# Altium footprint library Jump_254.PcbLib: 184 footprints (part 12 of 12)
Each footprint in its own frame and in the unit in brackets; x right, y up, seen from the top. Pads: shape width x height; smd on the part's side, far side on the other; paste and mask are expansions set on the pad; w line width, h text height; cw(c..) or ccw(c..) is an arc to the next point about the centre after c.
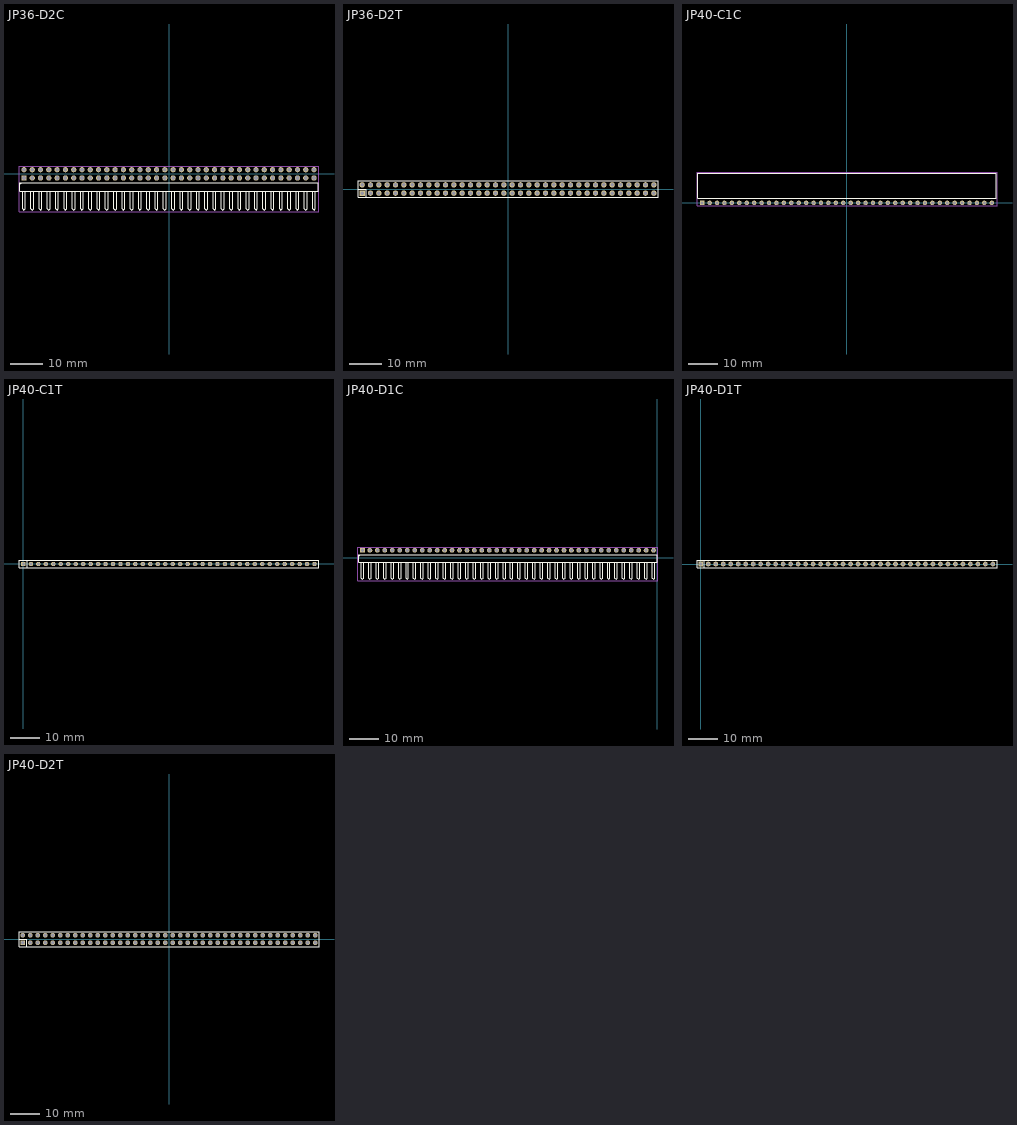
[diagram p11: the footprints below, top view; thin cyan lines are the x and y axes]

## JP36-D2C [mm] "72 pins, dual row, right angled, gold plating"
height 5.08
pads (72):
  rect 1.6x1.6 hole 1.1: 1(-44.45,-1.27)
  round 1.6 hole 1.1: 2(-41.91,-1.27) 3(-39.37,-1.27) 4(-36.83,-1.27) 5(-34.29,-1.27) 6(-31.75,-1.27) 7(-29.21,-1.27) 8(-26.67,-1.27) 9(-24.13,-1.27) 10(-21.59,-1.27) 11(-19.05,-1.27) 12(-16.51,-1.27) 13(-13.97,-1.27) 14(-11.43,-1.27) 15(-8.89,-1.27) 16(-6.35,-1.27) 17(-3.81,-1.27) 18(-1.27,-1.27) 19(1.27,-1.27) 20(3.81,-1.27) 21(6.35,-1.27) 22(8.89,-1.27) 23(11.43,-1.27) 24(13.97,-1.27) 25(16.51,-1.27) 26(19.05,-1.27) 27(21.59,-1.27) 28(24.13,-1.27) 29(26.67,-1.27) 30(29.21,-1.27) 31(31.75,-1.27) 32(34.29,-1.27) 33(36.83,-1.27) 34(39.37,-1.27) 35(41.91,-1.27) 36(44.45,-1.27) 37(44.45,1.27) 38(41.91,1.27) 39(39.37,1.27) 40(36.83,1.27) 41(34.29,1.27) 42(31.75,1.27) 43(29.21,1.27) 44(26.67,1.27) 45(24.13,1.27) 46(21.59,1.27) 47(19.05,1.27) 48(16.51,1.27) 49(13.97,1.27) 50(11.43,1.27) 51(8.89,1.27) 52(6.35,1.27) 53(3.81,1.27) 54(1.27,1.27) 55(-1.27,1.27) 56(-3.81,1.27) 57(-6.35,1.27) 58(-8.89,1.27) 59(-11.43,1.27) 60(-13.97,1.27) 61(-16.51,1.27) 62(-19.05,1.27) 63(-21.59,1.27) 64(-24.13,1.27) 65(-26.67,1.27) 66(-29.21,1.27) 67(-31.75,1.27) 68(-34.29,1.27) 69(-36.83,1.27) 70(-39.37,1.27) 71(-41.91,1.27) 72(-44.45,1.27)
Top Overlay:
  lines w0.2: -45.678,-3.236 -45.254,-2.812 ; -44.873,-5.335 -44.873,-10.729 -44.45,-11.152 -44.027,-10.729 -44.027,-5.31 ; -42.333,-5.335 -42.333,-10.729 -41.91,-11.152 -41.487,-10.729 -41.487,-5.335 ; -39.793,-5.335 -39.793,-10.729 -39.37,-11.152 -38.947,-10.729 -38.947,-5.31 ; -37.253,-5.335 -37.253,-10.729 -36.83,-11.152 -36.407,-10.729 -36.407,-5.335 ; -34.713,-5.335 -34.713,-10.729 -34.29,-11.152 -33.867,-10.729 -33.867,-5.31 ; -32.173,-5.335 -32.173,-10.729 -31.75,-11.152 -31.327,-10.729 -31.327,-5.335 ; -29.633,-5.335 -29.633,-10.729 -29.21,-11.152 -28.787,-10.729 -28.787,-5.31 ; -27.093,-5.335 -27.093,-10.729 -26.67,-11.152 -26.247,-10.729 -26.247,-5.335 ; -24.553,-5.335 -24.553,-10.729 -24.13,-11.152 -23.707,-10.729 -23.707,-5.31 ; -22.013,-5.335 -22.013,-10.729 -21.59,-11.152 -21.167,-10.729 -21.167,-5.335 ; -19.473,-5.335 -19.473,-10.729 -19.05,-11.152 -18.627,-10.729 -18.627,-5.31 ; -16.933,-5.335 -16.933,-10.729 -16.51,-11.152 -16.087,-10.729 -16.087,-5.335 ; -14.393,-5.335 -14.393,-10.729 -13.97,-11.152 -13.547,-10.729 -13.547,-5.31 ; -11.853,-5.335 -11.853,-10.729 -11.43,-11.152 -11.007,-10.729 -11.007,-5.335 ; -9.313,-5.335 -9.313,-10.729 -8.89,-11.152 -8.467,-10.729 -8.467,-5.31 ; -6.773,-5.335 -6.773,-10.729 -6.35,-11.152 -5.927,-10.729 -5.927,-5.335 ; -4.233,-5.335 -4.233,-10.729 -3.81,-11.152 -3.387,-10.729 -3.387,-5.31 ; -1.693,-5.335 -1.693,-10.729 -1.27,-11.152 -0.847,-10.729 -0.847,-5.335 ; 0.847,-5.335 0.847,-10.729 1.27,-11.152 1.693,-10.729 1.693,-5.31 ; 3.387,-5.335 3.387,-10.729 3.81,-11.152 4.233,-10.729 4.233,-5.335 ; 5.927,-5.335 5.927,-10.729 6.35,-11.152 6.773,-10.729 6.773,-5.31 ; 8.467,-5.335 8.467,-10.729 8.89,-11.152 9.313,-10.729 9.313,-5.335 ; 11.007,-5.335 11.007,-10.729 11.43,-11.152 11.853,-10.729 11.853,-5.31 ; 13.547,-5.335 13.547,-10.729 13.97,-11.152 14.393,-10.729 14.393,-5.335 ; 16.087,-5.335 16.087,-10.729 16.51,-11.152 16.933,-10.729 16.933,-5.31 ; 18.627,-5.335 18.627,-10.729 19.05,-11.152 19.473,-10.729 19.473,-5.335 ; 21.167,-5.335 21.167,-10.729 21.59,-11.152 22.013,-10.729 22.013,-5.31 ; 23.707,-5.335 23.707,-10.729 24.13,-11.152 24.553,-10.729 24.553,-5.335 ; 26.247,-5.335 26.247,-10.729 26.67,-11.152 27.093,-10.729 27.093,-5.31 ; 28.787,-5.335 28.787,-10.729 29.21,-11.152 29.633,-10.729 29.633,-5.335 ; 31.327,-5.335 31.327,-10.729 31.75,-11.152 32.173,-10.729 32.173,-5.31 ; 33.867,-5.335 33.867,-10.729 34.29,-11.152 34.713,-10.729 34.713,-5.335 ; 36.407,-5.335 36.407,-10.729 36.83,-11.152 37.253,-10.729 37.253,-5.31 ; 38.947,-5.335 38.947,-10.729 39.37,-11.152 39.793,-10.729 39.793,-5.335 ; 41.487,-5.335 41.487,-10.729 41.91,-11.152 42.333,-10.729 42.333,-5.31 ; 44.027,-5.335 44.027,-10.729 44.45,-11.152 44.873,-10.729 44.873,-5.335 ; -45.72,-5.31 45.72,-5.31 45.72,-2.77 -45.72,-2.77 -45.72,-5.31
Mechanical 15:
  lines w0.1: -45.97,-11.56 -45.97,2.27 45.97,2.27 45.97,-11.56 -45.97,-11.56
3D body "61307221021.stp": height 5.09, standoff -2.99, extent -45.72,-11.334 45.72,1.566

## JP36-D2T [mm] "72 pins, dual pin, straight, gold plating"
height 8.54
pads (72):
  rect 1.6x1.6 hole 1.1: 1(-44.45,-1.27)
  round 1.6 hole 1.1: 2(-41.91,-1.27) 3(-39.37,-1.27) 4(-36.83,-1.27) 5(-34.29,-1.27) 6(-31.75,-1.27) 7(-29.21,-1.27) 8(-26.67,-1.27) 9(-24.13,-1.27) 10(-21.59,-1.27) 11(-19.05,-1.27) 12(-16.51,-1.27) 13(-13.97,-1.27) 14(-11.43,-1.27) 15(-8.89,-1.27) 16(-6.35,-1.27) 17(-3.81,-1.27) 18(-1.27,-1.27) 19(1.27,-1.27) 20(3.81,-1.27) 21(6.35,-1.27) 22(8.89,-1.27) 23(11.43,-1.27) 24(13.97,-1.27) 25(16.51,-1.27) 26(19.05,-1.27) 27(21.59,-1.27) 28(24.13,-1.27) 29(26.67,-1.27) 30(29.21,-1.27) 31(31.75,-1.27) 32(34.29,-1.27) 33(36.83,-1.27) 34(39.37,-1.27) 35(41.91,-1.27) 36(44.45,-1.27) 37(44.45,1.27) 38(41.91,1.27) 39(39.37,1.27) 40(36.83,1.27) 41(34.29,1.27) 42(31.75,1.27) 43(29.21,1.27) 44(26.67,1.27) 45(24.13,1.27) 46(21.59,1.27) 47(19.05,1.27) 48(16.51,1.27) 49(13.97,1.27) 50(11.43,1.27) 51(8.89,1.27) 52(6.35,1.27) 53(3.81,1.27) 54(1.27,1.27) 55(-1.27,1.27) 56(-3.81,1.27) 57(-6.35,1.27) 58(-8.89,1.27) 59(-11.43,1.27) 60(-13.97,1.27) 61(-16.51,1.27) 62(-19.05,1.27) 63(-21.59,1.27) 64(-24.13,1.27) 65(-26.67,1.27) 66(-29.21,1.27) 67(-31.75,1.27) 68(-34.29,1.27) 69(-36.83,1.27) 70(-39.37,1.27) 71(-41.91,1.27) 72(-44.45,1.27)
Top Overlay:
  lines w0.2: -45.72,0 -43.18,0 -43.18,-2.54 ; -45.72,-2.54 -45.72,2.54 45.72,2.54 45.72,-2.54 40.64,-2.54 -45.72,-2.54
3D body "61307221121.stp": height 8.55, standoff -2.99, extent -45.72,-2.54 45.72,2.54

## JP40-C1C [mm] "40p 1 row Right angle"
height 2.5
pads (40):
  rect 1.52x1.52 hole 1.02: 1(-49.53,0)
  round 1.52 hole 1.02: 2(-46.99,0) 3(-44.45,0) 4(-41.91,0) 5(-39.37,0) 6(-36.83,0) 7(-34.29,0) 8(-31.75,0) 9(-29.21,0) 10(-26.67,0) 11(-24.13,0) 12(-21.59,0) 13(-19.05,0) 14(-16.51,0) 15(-13.97,0) 16(-11.43,0) 17(-8.89,0) 18(-6.35,0) 19(-3.81,0) 20(-1.27,0) 21(1.27,0) 22(3.81,0) 23(6.35,0) 24(8.89,0) 25(11.43,0) 26(13.97,0) 27(16.51,0) 28(19.05,0) 29(21.59,0) 30(24.13,0) 31(26.67,0) 32(29.21,0) 33(31.75,0) 34(34.29,0) 35(36.83,0) 36(39.37,0) 37(41.91,0) 38(44.45,0) 39(46.99,0) 40(49.53,0)
Top Overlay:
  lines w0.2: -51.054,1.524 -51.054,10.173 51.05,10.173 51.05,1.524 -51.054,1.524
Mechanical 15:
  lines w0.1: -51.3,-0.96 51.304,-0.96 51.304,10.423 -51.3,10.423 -51.3,-0.96
3D body "613040143121.stp": height 2.51, standoff -3.08, extent -51.05,-0.208 51.05,10.092

## JP40-C1T [mm] "40 row, straight, gold plating"
height 8.5
pads (40):
  rect 1.52x1.52 hole 1.02: 1(0,0)
  round 1.52 hole 1.02: 2(2.54,0) 3(5.08,0) 4(7.62,0) 5(10.16,0) 6(12.7,0) 7(15.24,0) 8(17.78,0) 9(20.32,0) 10(22.86,0) 11(25.4,0) 12(27.94,0) 13(30.48,0) 14(33.02,0) 15(35.56,0) 16(38.1,0) 17(40.64,0) 18(43.18,0) 19(45.72,0) 20(48.26,0) 21(50.8,0) 22(53.34,0) 23(55.88,0) 24(58.42,0) 25(60.96,0) 26(63.5,0) 27(66.04,0) 28(68.58,0) 29(71.12,0) 30(73.66,0) 31(76.2,0) 32(78.74,0) 33(81.28,0) 34(83.82,0) 35(86.36,0) 36(88.9,0) 37(91.44,0) 38(93.98,0) 39(96.52,0) 40(99.06,0)
Top Overlay:
  lines w0.2: 1.27,-1.27 1.27,1.27 ; -1.52,-1.27 -1.52,1.27 0.635,1.27 100.58,1.27 100.58,-1.27 -1.52,-1.27
3D body "61304011821.stp": height 8.51, standoff -3.09, extent -1.52,-1.25 100.58,1.25

## JP40-D1C [mm] "40 pins, 1 row, right angled, gold plating"
height 2.54
pads (40):
  rect 1.6x1.6 hole 1.1: 1(-100.33,2.54)
  round 1.6 hole 1.1: 2(-97.79,2.54) 3(-95.25,2.54) 4(-92.71,2.54) 5(-90.17,2.54) 6(-87.63,2.54) 7(-85.09,2.54) 8(-82.55,2.54) 9(-80.01,2.54) 10(-77.47,2.54) 11(-74.93,2.54) 12(-72.39,2.54) 13(-69.85,2.54) 14(-67.31,2.54) 15(-64.77,2.54) 16(-62.23,2.54) 17(-59.69,2.54) 18(-57.15,2.54) 19(-54.61,2.54) 20(-52.07,2.54) 21(-49.53,2.54) 22(-46.99,2.54) 23(-44.45,2.54) 24(-41.91,2.54) 25(-39.37,2.54) 26(-36.83,2.54) 27(-34.29,2.54) 28(-31.75,2.54) 29(-29.21,2.54) 30(-26.67,2.54) 31(-24.13,2.54) 32(-21.59,2.54) 33(-19.05,2.54) 34(-16.51,2.54) 35(-13.97,2.54) 36(-11.43,2.54) 37(-8.89,2.54) 38(-6.35,2.54) 39(-3.81,2.54) 40(-1.27,2.54)
Top Overlay:
  drawing of 165 lines, arcs and shapes, not listed
Mechanical 15:
  lines w0.1: -101.85,-7.75 -101.85,3.5 0.25,3.5 0.25,-7.75 -101.85,-7.75
3D body "61304011021.stp": height 2.55, standoff -2.99, extent -101.6,-7.524 0,2.836

## JP40-D1T [mm] "40 pins, 1 row, straight, gold plating"
height 8.54
pads (40):
  rect 1.6x1.6 hole 1.1: 1(0,0)
  round 1.6 hole 1.1: 2(2.54,0) 3(5.08,0) 4(7.62,0) 5(10.16,0) 6(12.7,0) 7(15.24,0) 8(17.78,0) 9(20.32,0) 10(22.86,0) 11(25.4,0) 12(27.94,0) 13(30.48,0) 14(33.02,0) 15(35.56,0) 16(38.1,0) 17(40.64,0) 18(43.18,0) 19(45.72,0) 20(48.26,0) 21(50.8,0) 22(53.34,0) 23(55.88,0) 24(58.42,0) 25(60.96,0) 26(63.5,0) 27(66.04,0) 28(68.58,0) 29(71.12,0) 30(73.66,0) 31(76.2,0) 32(78.74,0) 33(81.28,0) 34(83.82,0) 35(86.36,0) 36(88.9,0) 37(91.44,0) 38(93.98,0) 39(96.52,0) 40(99.06,0)
Top Overlay:
  lines w0.2: 1.27,-1.27 1.27,1.27 ; -1.27,-1.27 -1.27,1.27 0.635,1.27 100.46,1.27 100.46,-1.27 -1.27,-1.27
3D body "61304011121.stp": height 8.54, standoff -3, extent -1.27,-1.27 100.33,1.27

## JP40-D2T [mm] "80 pins, dual row, right angled, gold plating"
height 8.54
pads (80):
  rect 1.6x1.6 hole 1.1: 1(-49.53,-1.27)
  round 1.6 hole 1.1: 2(-46.99,-1.27) 3(-44.45,-1.27) 4(-41.91,-1.27) 5(-39.37,-1.27) 6(-36.83,-1.27) 7(-34.29,-1.27) 8(-31.75,-1.27) 9(-29.21,-1.27) 10(-26.67,-1.27) 11(-24.13,-1.27) 12(-21.59,-1.27) 13(-19.05,-1.27) 14(-16.51,-1.27) 15(-13.97,-1.27) 16(-11.43,-1.27) 17(-8.89,-1.27) 18(-6.35,-1.27) 19(-3.81,-1.27) 20(-1.27,-1.27) 21(1.27,-1.27) 22(3.81,-1.27) 23(6.35,-1.27) 24(8.89,-1.27) 25(11.43,-1.27) 26(13.97,-1.27) 27(16.51,-1.27) 28(19.05,-1.27) 29(21.59,-1.27) 30(24.13,-1.27) 31(26.67,-1.27) 32(29.21,-1.27) 33(31.75,-1.27) 34(34.29,-1.27) 35(36.83,-1.27) 36(39.37,-1.27) 37(41.91,-1.27) 38(44.45,-1.27) 39(46.99,-1.27) 40(49.53,-1.27) 41(49.53,1.27) 42(46.99,1.27) 43(44.45,1.27) 44(41.91,1.27) 45(39.37,1.27) 46(36.83,1.27) 47(34.29,1.27) 48(31.75,1.27) 49(29.21,1.27) 50(26.67,1.27) 51(24.13,1.27) 52(21.59,1.27) 53(19.05,1.27) 54(16.51,1.27) 55(13.97,1.27) 56(11.43,1.27) 57(8.89,1.27) 58(6.35,1.27) 59(3.81,1.27) 60(1.27,1.27) 61(-1.27,1.27) 62(-3.81,1.27) 63(-6.35,1.27) 64(-8.89,1.27) 65(-11.43,1.27) 66(-13.97,1.27) 67(-16.51,1.27) 68(-19.05,1.27) 69(-21.59,1.27) 70(-24.13,1.27) 71(-26.67,1.27) 72(-29.21,1.27) 73(-31.75,1.27) 74(-34.29,1.27) 75(-36.83,1.27) 76(-39.37,1.27) 77(-41.91,1.27) 78(-44.45,1.27) 79(-46.99,1.27) 80(-49.53,1.27)
Top Overlay:
  lines w0.2: -50.8,0 -48.26,0 -48.26,-2.54 ; -50.8,-2.54 45.72,-2.54 50.8,-2.54 50.8,2.54 -50.8,2.54 -50.8,-2.54
3D body "61308021121.stp": height 8.55, standoff -2.99, extent -50.8,-2.54 50.8,2.54

## PCBComponent_1 [mil]